# Altium footprint library 691 243 110 0xx.PcbLib: 7 footprints
Each footprint in its own frame and in the unit in brackets; x right, y up, seen from the top. Pads: shape width x height; smd on the part's side, far side on the other; paste and mask are expansions set on the pad; w line width, h text height; cw(c..) or ccw(c..) is an arc to the next point about the centre after c.
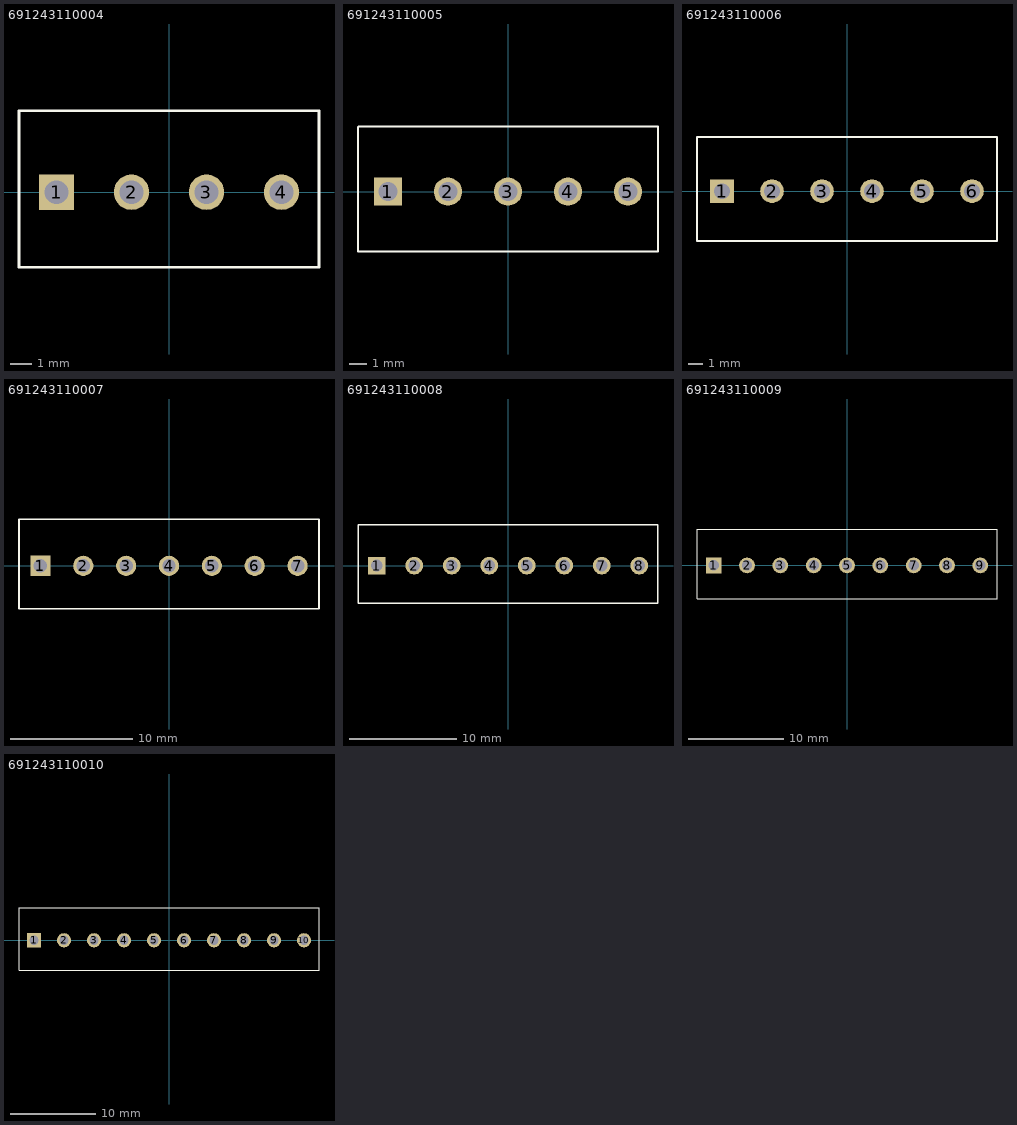
[diagram p0: the footprints below, top view; thin cyan lines are the x and y axes]

## 691243110004 [mm] "Serie 2431 - 3.50 mm_4 pins"
height 9.1
pads (4):
  rect 1.65x1.65 hole 1.1: 1(-5.25,0)
  round 1.65 hole 1.1: 2(-1.75,0) 3(1.75,0) 4(5.25,0)
Top Overlay:
  lines w0.127: -7,-3.5 7,-3.5 7,3.8 -7,3.8 -7,-3.5
3D body: height 9.1, standoff -3.5, extent -7,-3.5 7,3.8

## 691243110005 [mm] "Serie 2431 - 3.50 mm_5 pins"
height 9.1
pads (5):
  rect 1.65x1.65 hole 1.1: 1(-7,0)
  round 1.65 hole 1.1: 2(-3.5,0) 3(0,0) 4(3.5,0) 5(7,0)
Top Overlay:
  lines w0.127: 8.7,-3.5 -8.75,-3.5 -8.75,3.75 -8.7,3.8 8.7,3.8 ; 8.75,-3.5 8.75,3.8
3D body: height 9.1, standoff -3.5, extent -8.8,-3.5 8.7,3.8

## 691243110006 [mm] "Serie 2431 - 3.50 mm_6 pins"
height 9.1
pads (6):
  rect 1.65x1.65 hole 1.1: 1(-8.75,0)
  round 1.65 hole 1.1: 2(-5.25,0) 3(-1.75,0) 4(1.75,0) 5(5.25,0) 6(8.75,0)
Top Overlay:
  lines w0.127: -10.5,-3.5 -10.5,3.8 10.5,3.8 10.5,-3.5 -10.5,-3.5
3D body: height 9.1, standoff -3.5, extent -10.5,-3.45 10.5,3.85

## 691243110007 [mm] "Serie 2431 - 3.50 mm_7 pins"
height 9.1
pads (7):
  rect 1.65x1.65 hole 1.1: 1(-10.5,0)
  round 1.65 hole 1.1: 2(-7,0) 3(-3.5,0) 4(0,0) 5(3.5,0) 6(7,0) 7(10.5,0)
Top Overlay:
  lines w0.127: -12.25,-3.5 -12.25,3.8 12.25,3.8 12.25,-3.5 -12.25,-3.5
3D body: height 9.1, standoff -3.5, extent -12.25,-3.5 12.25,3.8

## 691243110008 [mm] "Serie 2431 - 3.50 mm_8 pins"
height 9.1
pads (8):
  rect 1.65x1.65 hole 1.1: 1(-12.25,0)
  round 1.65 hole 1.1: 2(-8.75,0) 3(-5.25,0) 4(-1.75,0) 5(1.75,0) 6(5.25,0) 7(8.75,0) 8(12.25,0)
Top Overlay:
  lines w0.127: -14,-3.5 -14,3.8 14,3.8 14,-3.5 -14,-3.5
3D body: height 9.1, standoff -3.5, extent -14.05,-3.5 13.95,3.8

## 691243110009 [mm] "Serie 2431 - 3.50 mm_9 pins"
height 9.1
pads (9):
  rect 1.65x1.65 hole 1.1: 1(-14,0)
  round 1.65 hole 1.1: 2(-10.5,0) 3(-7,0) 4(-3.5,0) 5(0,0) 6(3.5,0) 7(7,0) 8(10.5,0) 9(14,0)
Top Overlay:
  lines w0.127: -15.75,-3.5 -15.75,3.8 15.75,3.8 15.75,-3.5 -15.75,-3.5
3D body: height 9.1, standoff -3.5, extent -15.8,-3.5 15.7,3.8

## 691243110010 [mm] "Serie 2431 - 3.50 mm_10 pins"
height 9.1
pads (10):
  rect 1.65x1.65 hole 1.1: 1(-15.75,0)
  round 1.65 hole 1.1: 2(-12.25,0) 3(-8.75,0) 4(-5.25,0) 5(-1.75,0) 6(1.75,0) 7(5.25,0) 8(8.75,0) 9(12.25,0) 10(15.75,0)
Top Overlay:
  lines w0.127: -17.5,-3.5 -17.5,3.8 17.5,3.8 17.5,-3.5 -17.5,-3.5
3D body: height 9.1, standoff -3.5, extent -17.5,-3.55 17.5,3.75